# Altium schematic symbol library SD_MMC_9.SchLib: 1 symbol
Pins are listed as number, name and electrical type; pins without a type are passive.

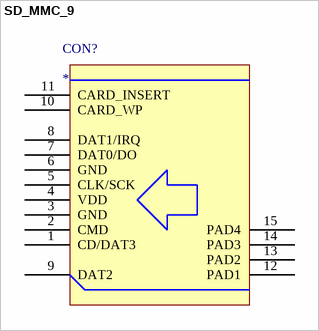
[diagram p0: symbol SD_MMC_9]

## SD_MMC_9
designator CON?
pins: 1 CD/DAT3, 2 CMD, 3 GND, 4 VDD, 5 CLK/SCK, 6 GND, 7 DAT0/DO, 8 DAT1/IRQ, 9 DAT2, 10 CARD_WP, 11 CARD_INSERT, 12 PAD1, 13 PAD2, 14 PAD3, 15 PAD4